# EAGLE library part MX34040NF2 (library MX34040NF2)
Compact non-waterproof automotive connector, High-density, ECU, switches, and sensors, 40 pos. Right angle Pin header Source: Datasheet <https://www.jae.com/direct/topics/topics_file_download/topics_id=64950&ext_no=06&_lang=en&v=>
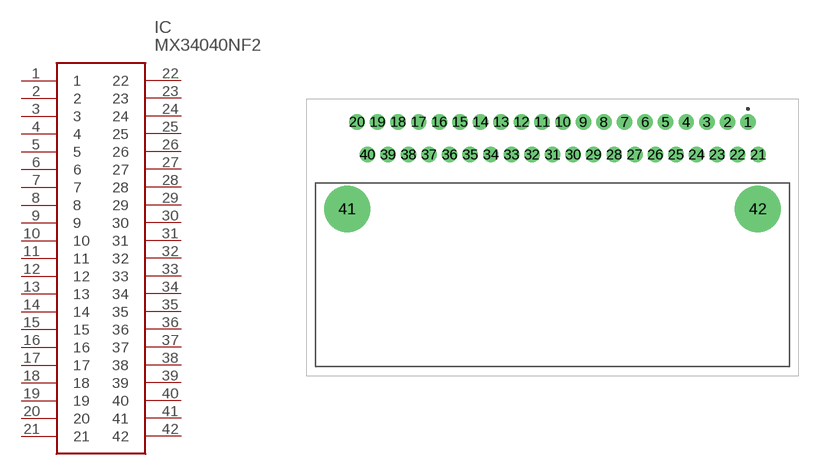
[diagram p0: symbol with the pads of MX34040NF2; footprint MX34040NF2]

Designator prefix IC

## MX34040NF2 (Description: Compact non-waterproof automotive connector, High-density, ECU, switches, and sensors, 40 pos. Right angle Pin header; Height: 15mm; Manufacturer_Name: JAE; Manufacturer_Part_Number: MX34040NF2; Mouser_Part_Number: 656-MX34040NF2; Mouser_Price-Stock: https://www.mouser.co.uk/ProductDetail/JAE-Electronics/MX34040NF2?qs=e1Y2jJE%2FU%252BvJVmbSaTO13w%3D%3D)  [MX34040NF2]
1  1
2  2
3  3
4  4
5  5
6  6
7  7
8  8
9  9
10  10
11  11
12  12
13  13
14  14
15  15
16  16
17  17
18  18
19  19
20  20
21  21
22  22
23  23
24  24
25  25
26  26
27  27
28  28
29  29
30  30
31  31
32  32
33  33
34  34
35  35
36  36
37  37
38  38
39  39
40  40
41  41
42  42

## Footprint MX34040NF2 (pad centres in mm)
MX34040NF2
drill 1.1 pad 1.65: 1 20.9,12.35; 2 18.7,12.35; 3 16.5,12.35; 4 14.3,12.35; 5 12.1,12.35; 6 9.9,12.35; 7 7.7,12.35; 8 5.5,12.35; 9 3.3,12.35; 10 1.1,12.35; 11 -1.1,12.35; 12 -3.3,12.35; 13 -5.5,12.35; 14 -7.7,12.35; 15 -9.9,12.35; 16 -12.1,12.35; 17 -14.3,12.35; 18 -16.5,12.35; 19 -18.7,12.35; 20 -20.9,12.35; 21 22,8.85; 22 19.8,8.85; 23 17.6,8.85; 24 15.4,8.85; 25 13.2,8.85; 26 11,8.85; 27 8.8,8.85; 28 6.6,8.85; 29 4.4,8.85; 30 2.2,8.85; 31 0,8.85; 32 -2.2,8.85; 33 -4.4,8.85; 34 -6.6,8.85; 35 -8.8,8.85; 36 -11,8.85; 37 -13.2,8.85; 38 -15.4,8.85; 39 -17.6,8.85; 40 -19.8,8.85
drill 3.3 pad 4.95: 41 -21.95,3.05; 42 21.95,3.05